# EAGLE library part L298N (library L298N (1))
Dual Full Bridge Motor Driver 15-Pin(15+Tab) MULTIWATT V Tube Check availability <https://pricing.snapeda.com/parts/L298N/STMicroelectronics/view-part?ref=eda>
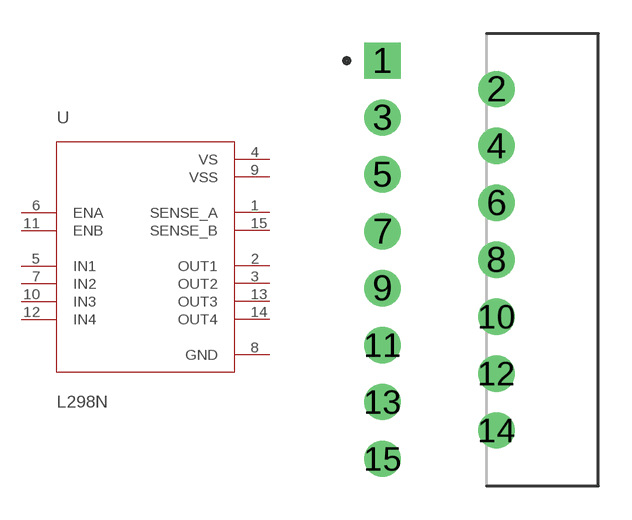
[diagram p0: symbol with the pads of TO127P2020X500X2100-15; footprint TO127P2020X500X2100-15]

Designator prefix U

## L298N (Availability: In Stock; Description: Half Bridge (4) Driver DC Motors, Relays, Solenoids, Stepper Motors Bipolar 15-Multiwatt; MF: STMicroelectronics; MP: L298N; Package: Multiwatt-15 Magnatec; Price: None; Purchase-URL: https://pricing.snapeda.com/search/part/L298N/?ref=eda)  [TO127P2020X500X2100-15]
1  SENSE_A  pas
2  OUT1  out
3  OUT2  out
4  VS  pwr
5  IN1  in
6  ENA  in
7  IN2  in
8  GND  pwr
9  VSS  in
10  IN3  in
11  ENB  in
12  IN4  in
13  OUT3  out
14  OUT4  out
15  SENSE_B  pas

## Footprint TO127P2020X500X2100-15 (pad centres in mm)
drill 1.08 pad 1.62 square: 1 0,0
drill 1.08 pad 1.62: 2 5.08,-1.27; 3 0,-2.54; 4 5.08,-3.81; 5 0,-5.08; 6 5.08,-6.35; 7 0,-7.62; 8 5.08,-8.89; 9 0,-10.16; 10 5.08,-11.43; 11 0,-12.7; 12 5.08,-13.97; 13 0,-15.24; 14 5.08,-16.51; 15 0,-17.78